# EAGLE library part 2X6HEAD (library Termostat)
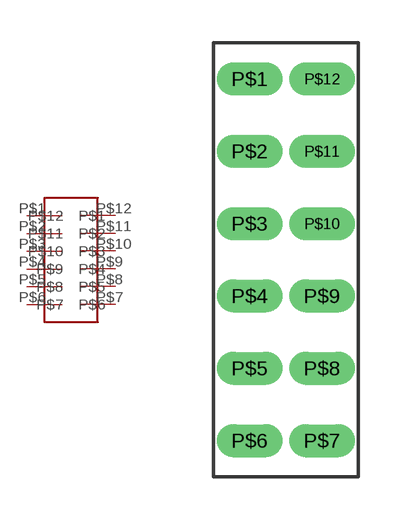
[diagram p2: symbol with the pads of 2X6PINS; footprint 2X6PINS]

Designator prefix -

## 2X6HEAD  [2X6PINS]
P$1  P$1
P$2  P$2
P$3  P$3
P$4  P$4
P$5  P$5
P$6  P$6
P$7  P$7
P$8  P$8
P$9  P$9
P$10  P$10
P$11  P$11
P$12  P$12

## Footprint 2X6PINS (pad centres in mm)
drill 0.65 pad 1.016 long: P$1 -1.27,6.35; P$2 -1.27,3.81; P$3 -1.27,1.27; P$4 -1.27,-1.27; P$5 -1.27,-3.81; P$6 -1.27,-6.35; P$7 1.27,-6.35; P$8 1.27,-3.81; P$9 1.27,-1.27; P$10 1.27,1.27; P$11 1.27,3.81; P$12 1.27,6.35